# Altium footprint library CONN-FPC-0512811094.PcbLib: 1 footprints
Each footprint in its own frame and in the unit in brackets; x right, y up, seen from the top. Pads: shape width x height; smd on the part's side, far side on the other; paste and mask are expansions set on the pad; w line width, h text height; cw(c..) or ccw(c..) is an arc to the next point about the centre after c.
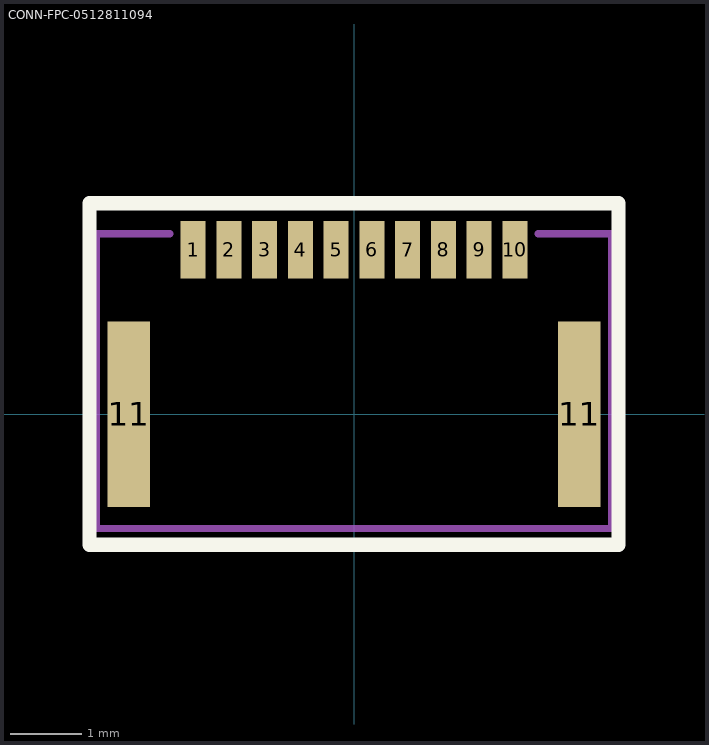
[diagram p0: the footprint, top view; thin cyan lines are the x and y axes]

## CONN-FPC-0512811094 [mm]
pads (12):
  rect 0.35x0.8 smd paste+0 mask+0.05: 1(-2.25,2.3) 2(-1.75,2.3) 3(-1.25,2.3) 4(-0.75,2.3) 5(-0.25,2.3) 6(0.25,2.3) 7(0.75,2.3) 8(1.25,2.3) 9(1.75,2.3) 10(2.25,2.3)
  rect 0.6x2.6 smd paste+0 mask+0.05: 11(-3.15,0) 11(3.15,0)
Top Overlay:
  lines w0.2: -3.7,-1.825 3.7,-1.825 3.7,2.95 -3.7,2.95 -3.7,-1.825
Top Assembly:
  lines w0.1: -2.575,2.525 -3.6,2.525 -3.6,-1.6 3.6,-1.6 3.6,2.525 2.575,2.525
  text "'.Designator'" at -0.575,-0.375 h0.7
3D body "512811094.stp": height 1.15, standoff -0.05, extent -3.55,-1.55 3.55,2.5